# EAGLE library part TA6932 (library Device-IPC7351C)
LED驱动控制专用电路 TA6932 一、 概述 TA6932是一种LED（发光二极管显示器）驱动控制专用电路，内部集成有MCU数字接口、 数据锁存器、LED 高压驱动。本产品性能优良，质量可靠。主要应用于多段位显示屏驱动。 采用SOP32的封装形式。 二、 特性说明 • 采用功率CMOS 工艺 • 显示模式（8 段× 16 位） • 辉度调节电路（占空比 8 级可调） • 串行接口（CLK，STB，DIN） • 振荡方式：RC 振荡（450KHz+5%） • 内置上电复位电路 • 封装形式：SOP32
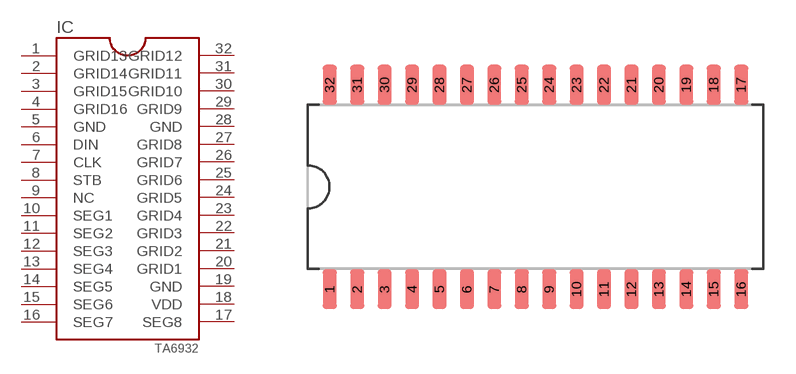
[diagram p5: symbol with the pads of SOIC32P127_2098X1040X259L75X40N; footprint SOIC32P127_2098X1040X259L75X40N]

Designator prefix IC

## TA6932  [SOIC32P127_2098X1040X259L75X40N]
1  GRID13
2  GRID14
3  GRID15
4  GRID16
5  GND
6  DIN
7  CLK
8  STB
9  NC
10  SEG1
11  SEG2
12  SEG3
13  SEG4
14  SEG5
15  SEG6
16  SEG7
17  SEG8
18  VDD
19  GND
20  GRID1
21  GRID2
22  GRID3
23  GRID4
24  GRID5
25  GRID6
26  GRID7
27  GRID8
28  GND
29  GRID9
30  GRID10
31  GRID11
32  GRID12

## Footprint SOIC32P127_2098X1040X259L75X40N (pad centres in mm)
From TA693 Small Outline IC (SOIC), 1.27 mm pitch; 32 pin, 20.98 mm L X 7.52 mm W X 2.59 mm H body PCB Libraries Packages
smd 0.65 x 1.84: 1 -9.525,-4.74; 2 -8.255,-4.74; 3 -6.985,-4.74; 4 -5.715,-4.74; 5 -4.445,-4.74; 6 -3.175,-4.74; 7 -1.905,-4.74; 8 -0.635,-4.74; 9 0.635,-4.74; 10 1.905,-4.74; 11 3.175,-4.74; 12 4.445,-4.74; 13 5.715,-4.74; 14 6.985,-4.74; 15 8.255,-4.74; 16 9.525,-4.74; 17 9.525,4.74; 18 8.255,4.74; 19 6.985,4.74; 20 5.715,4.74; 21 4.445,4.74; 22 3.175,4.74; 23 1.905,4.74; 24 0.635,4.74; 25 -0.635,4.74; 26 -1.905,4.74; 27 -3.175,4.74; 28 -4.445,4.74; 29 -5.715,4.74; 30 -6.985,4.74; 31 -8.255,4.74; 32 -9.525,4.74